# Altium schematic symbol library mySCH.SCHLIB: 54 symbols
Pins are listed as number, name and electrical type; pins without a type are passive.

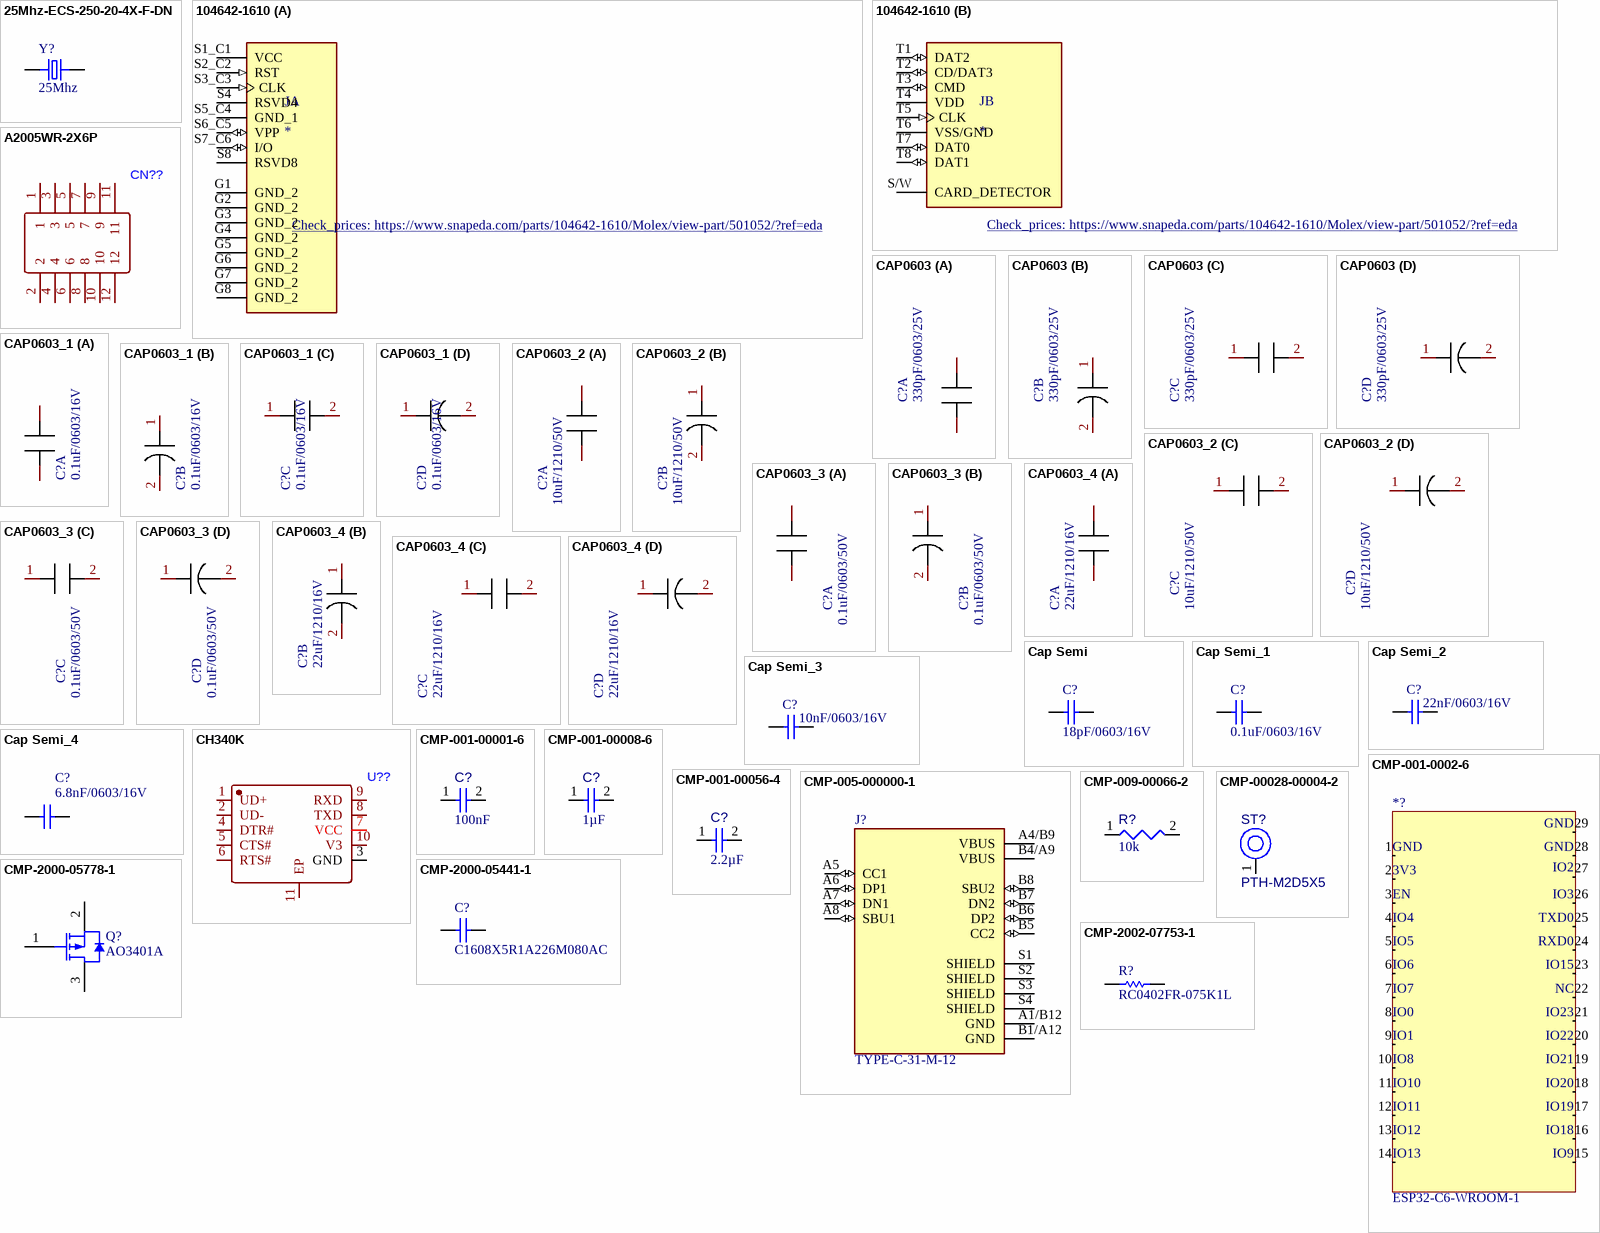
[diagram p0: symbols 25Mhz-ECS-250-20-4X-F-DN to CMP-2002-07753-1]

## 25Mhz-ECS-250-20-4X-F-DN
designator Y?, comment 25Mhz
25 MHz ±30ppm Crystal 20pF 30 Ohms HC-49/US; MF: ECS Inc.; MP: ECS-250-20-4X-F-DN; SnapEDA_Link: https://www.snapeda.com/parts/ECS-250-20-4X-F-DN/ECS+Inc./view-part/?ref=snap; Package: HC-49US ECS Inc.; Value: *; Check_prices: https://www.snapeda.com/parts/ECS-250-20-4X-F-DN/ECS+Inc./view-part/?ref=eda
footprint XTAL_ECS-250-20-4X-F-DN
pins: 1, 2

## 104642-1610
designator J
17 (16 + 1) Position Card Connector Combo - microSDâ„¢, Micro SIM Surface Mount, Right Angle Gold or Gold-Palladium; MF: Molex; MP: 104642-1610; Package: None; SnapEDA_Link: https://www.snapeda.com/parts/104642-1610/Molex/view-part/501052/?ref=snap; Mouser-Purchase-URL: https://snapeda.com/shop?store=Mouser&id=501052; Price: None; Availability: Warning; Value: *; Check_prices: https://www.snapeda.com/parts/104642-1610/Molex/view-part/501052/?ref=eda
footprint MOLEX_104642-1610
part A pins: G1 GND_2 (power), G2 GND_2 (power), G3 GND_2 (power), G4 GND_2 (power), G5 GND_2 (power), G6 GND_2 (power), G7 GND_2 (power), G8 GND_2 (power), S1_C1 VCC (power), S2_C2 RST (in), S3_C3 CLK (in), S4 RSVD4, S5_C4 GND_1 (power), S6_C5 VPP (io), S7_C6 I/O (io), S8 RSVD8
part B pins: S/W CARD_DETECTOR, T1 DAT2 (io), T2 CD/DAT3 (io), T3 CMD (io), T4 VDD (power), T5 CLK (in), T6 VSS/GND (power), T7 DAT0 (io), T8 DAT1 (io)

## A2005WR-2X6P
designator CN??
footprint HDR-TH_12P-P2.00-H-M-R2-C6-S2.00-W8.7
pins: 1, 2, 3, 4, 5, 6, 7, 8, 9, 10, 11, 12

## CAP0603
designator C?, comment 330pF/0603/25V
SURFACE MOUNT CAPACITOR 0.031 X 0.061 INCHES; Manufacturer #1: IPC SM-782 STD.; Name: CAP0603; Sim_Analog_Order: Model$; PCB DECAL: 0603; Add into BOM: yes; Symbol: CAP0603; Device: CAP0603; OldName: CAP0603; Value: 330pF/0603/25V; Convert to PCB: yes; Origin Footprint: 0603
footprint CAP0603
part A pins: 1, 2
part B pins: 1, 2
part C pins: 1, 2
part D pins: 1, 2

## CAP0603_1
designator C?, comment 0.1uF/0603/16V
SURFACE MOUNT CAPACITOR 0.031 X 0.061 INCHES; Manufacturer #1: IPC SM-782 STD.; Name: CAP0603; Sim_Analog_Order: Model$; Value: 0.1uF/0603/50V; PCB DECAL: 0603; Add into BOM: yes; Symbol: CAP0603; Device: CAP0603; OldName: CAP0603; Convert to PCB: yes; Origin Footprint: 0603
footprint CAP0603
part A pins: 1, 2
part B pins: 1, 2
part C pins: 1, 2
part D pins: 1, 2

## CAP0603_2
designator C?, comment 10uF/1210/50V
SURFACE MOUNT CAPACITOR 0.031 X 0.061 INCHES; Manufacturer #1: IPC SM-782 STD.; Name: CAP0603; Sim_Analog_Order: Model$; Value: 10uF/1210/35V; PCB DECAL: 0603; Add into BOM: yes; Symbol: CAP0603; Device: CAP0603; OldName: CAP0603; Convert to PCB: yes; Origin Footprint: 0603
footprint CAP1210-CAPC3225X140N (CAP1210)
part A pins: 1, 2
part B pins: 1, 2
part C pins: 1, 2
part D pins: 1, 2

## CAP0603_3
designator C?, comment 0.1uF/0603/50V
SURFACE MOUNT CAPACITOR 0.031 X 0.061 INCHES; Manufacturer #1: IPC SM-782 STD.; Name: CAP0603; Sim_Analog_Order: Model$; PCB DECAL: 0603; Add into BOM: yes; Symbol: CAP0603; Device: CAP0603; OldName: CAP0603; Value: 0.1uF/0603/50V; Convert to PCB: yes; Origin Footprint: 0603
footprint CAP0603
part A pins: 1, 2
part B pins: 1, 2
part C pins: 1, 2
part D pins: 1, 2

## CAP0603_4
designator C?, comment 22uF/1210/16V
SURFACE MOUNT CAPACITOR 0.031 X 0.061 INCHES; Manufacturer #1: IPC SM-782 STD.; Name: CAP0603; Sim_Analog_Order: Model$; Value: 22uF/1210/35V; PCB DECAL: 0603; Add into BOM: yes; Symbol: CAP0603; Device: CAP0603; OldName: CAP0603; Convert to PCB: yes; Origin Footprint: 0603
footprint CAP1210-CAPC3225X140N (CAP1210)
part A pins: 1, 2
part B pins: 1, 2
part C pins: 1, 2
part D pins: 1, 2

## Cap Semi
designator C?, comment 18pF/0603/16V
Capacitor (Semiconductor SIM Model); Published: 8-Jun-2000; LatestRevisionDate: 29-May-2009; LatestRevisionNote: IPC-7351 Footprint Added.; PackageReference: C1206; Publisher: Altium Limited; PackageDescription: Chip Capacitor
footprint C1206 (Chip Capacitor, Body 3.2x1.6mm, IPC High Density)
footprint 0402 (Chip Capacitor, Body 1.0x0.5mm, IPC High Density)
footprint C2512 (Chip Capacitor, Body 2.54x1.27mm, IPC High Density)
footprint 1608[0603] (Chip Capacitor, Body 1.6x0.8mm, IPC High Density)
footprint C1210 (Chip Capacitor, Body 3.2x2.5mm, IPC High Density)
simulation model CAP (Semiconductor Capacitor)
signal-integrity model Cap Semi
footprint CAP0603
pins: 1, 2

## Cap Semi_1
designator C?, comment 0.1uF/0603/16V
Capacitor (Semiconductor SIM Model); Published: 8-Jun-2000; LatestRevisionDate: 29-May-2009; LatestRevisionNote: IPC-7351 Footprint Added.; PackageReference: C1206; Publisher: Altium Limited; PackageDescription: Chip Capacitor
footprint C1206 (Chip Capacitor, Body 3.2x1.6mm, IPC High Density)
footprint 0402 (Chip Capacitor, Body 1.0x0.5mm, IPC High Density)
footprint C2512 (Chip Capacitor, Body 2.54x1.27mm, IPC High Density)
footprint 1608[0603] (Chip Capacitor, Body 1.6x0.8mm, IPC High Density)
footprint C1210 (Chip Capacitor, Body 3.2x2.5mm, IPC High Density)
simulation model CAP (Semiconductor Capacitor)
signal-integrity model Cap Semi
footprint CAP0603
pins: 1, 2

## Cap Semi_2
designator C?, comment 22nF/0603/16V
Capacitor (Semiconductor SIM Model); Published: 8-Jun-2000; LatestRevisionDate: 29-May-2009; LatestRevisionNote: IPC-7351 Footprint Added.; PackageReference: C1206; Publisher: Altium Limited; PackageDescription: Chip Capacitor
footprint C1206 (Chip Capacitor, Body 3.2x1.6mm, IPC High Density)
footprint 0402 (Chip Capacitor, Body 1.0x0.5mm, IPC High Density)
footprint C2512 (Chip Capacitor, Body 2.54x1.27mm, IPC High Density)
footprint 1608[0603] (Chip Capacitor, Body 1.6x0.8mm, IPC High Density)
footprint C1210 (Chip Capacitor, Body 3.2x2.5mm, IPC High Density)
simulation model CAP (Semiconductor Capacitor)
signal-integrity model Cap Semi
footprint CAP0603
pins: 1, 2

## Cap Semi_3
designator C?, comment 10nF/0603/16V
Capacitor (Semiconductor SIM Model); Published: 8-Jun-2000; LatestRevisionDate: 29-May-2009; LatestRevisionNote: IPC-7351 Footprint Added.; PackageReference: C1206; Publisher: Altium Limited; PackageDescription: Chip Capacitor
footprint C1206 (Chip Capacitor, Body 3.2x1.6mm, IPC High Density)
footprint 0402 (Chip Capacitor, Body 1.0x0.5mm, IPC High Density)
footprint C2512 (Chip Capacitor, Body 2.54x1.27mm, IPC High Density)
footprint 1608[0603] (Chip Capacitor, Body 1.6x0.8mm, IPC High Density)
footprint C1210 (Chip Capacitor, Body 3.2x2.5mm, IPC High Density)
simulation model CAP (Semiconductor Capacitor)
signal-integrity model Cap Semi
footprint CAP0603
pins: 1, 2

## Cap Semi_4
designator C?, comment 6.8nF/0603/16V
Capacitor (Semiconductor SIM Model); Published: 8-Jun-2000; LatestRevisionDate: 29-May-2009; LatestRevisionNote: IPC-7351 Footprint Added.; PackageReference: C1206; Publisher: Altium Limited; PackageDescription: Chip Capacitor
footprint C1206 (Chip Capacitor, Body 3.2x1.6mm, IPC High Density)
footprint 0402 (Chip Capacitor, Body 1.0x0.5mm, IPC High Density)
footprint C2512 (Chip Capacitor, Body 2.54x1.27mm, IPC High Density)
footprint 1608[0603] (Chip Capacitor, Body 1.6x0.8mm, IPC High Density)
footprint C1210 (Chip Capacitor, Body 3.2x2.5mm, IPC High Density)
simulation model CAP (Semiconductor Capacitor)
signal-integrity model Cap Semi
footprint CAP0603
pins: 1, 2

## CH340K
designator U??
footprint ESOP-10_L4.9-W3.9-P1.00-LS6.2-BL-EP
pins: 1 UD+, 2 UD-, 3 GND, 4 DTR#, 5 CTS#, 6 RTS#, 7 VCC, 8 TXD, 9 RXD, 10 V3, 11 EP

## CMP-001-00001-6
designator C?, comment value 100nF  (hidden comment: Capacitor 0.1 uF +/- 5% 16 V 0402)
Chip Capacitor, 0.1 uF, +/- 5%, 16 V, 0402 (1005 Metric); Capacitor Type: Ceramic; Voltage Rating: 16V; Max Operating Temperature: 125°C; Min Operating Temperature: -55°C; Case/Package: 0402; Mounting Technology: SM; Pins: 2; Tolerance: 5%; RoHS Compliant: True
footprint CAPC1005X56X25LL10T15 (Chip Capacitor, 2-Leads, Body 1.10x0.60mm, IPC High Density)
footprint CAPC1005X56X25NL10T15 (Chip Capacitor, 2-Leads, Body 1.10x0.60mm, IPC Medium Density)
footprint CAPC1005X56X25ML10T15 (Chip Capacitor, 2-Leads, Body 1.10x0.60mm, IPC Low Density)
pins: 1, 2

## CMP-001-0002-6
designator *?, comment ESP32-C6-WROOM-1
ESP32-C6-WROOM-1 Module
footprint PCBComponent_1
pins: 1 (power) "GND", 2 (power) "3V3", 3 (in) "EN", 4 (io) "IO4", 5 (in) "IO5", 6 (io) "IO6", 7 (io) "IO7", 8 (io) "IO0", 9 (io) "IO1", 10 (io) "IO8", 11 (io) "IO10", 12 (io) "IO11", 13 (io) "IO12", 14 (io) "IO13", 15 (io) "IO9", 16 (io) "IO18", 17 (io) "IO19", 18 (io) "IO20", 19 (io) "IO21", 20 (io) "IO22", 21 (io) "IO23", 22 "NC", 23 (io) "IO15", 24 (io) "RXD0", 25 (io) "TXD0", 26 (io) "IO3", 27 (io) "IO2", 28 (power) "GND", 29 (power) "EPAD"
text: GND; IO2; 3V3; EN; IO3; IO4; TXD0; IO5; RXD0; IO6; IO15; IO7; NC; IO0; IO23; IO1; IO22; IO8; IO21; IO10; IO20; IO11; IO19; IO12; IO18; IO13; IO9

## CMP-001-00008-6
designator C?, comment value 1µF  (hidden comment: Capacitor 1 uF +/- 10% 6.3 V 0402)
Chip Capacitor, 1 uF, +/- 10%, 6.3 V, 0402 (1005 Metric); Capacitor Type: Ceramic; Voltage Rating: 6.3V; Max Operating Temperature: 85°C; Mounting Technology: SM; Tolerance: 10%; Case/Package: 0402; RoHS Compliant: True; Min Operating Temperature: -55°C; Pins: 2
footprint CAPC1005X55X25LL05T10 (Chip Capacitor, 2-Leads, Body 1.05x0.55mm, IPC High Density)
footprint CAPC1005X55X25ML05T10 (Chip Capacitor, 2-Leads, Body 1.05x0.55mm, IPC Low Density)
footprint CAPC1005X55X25NL05T10 (Chip Capacitor, 2-Leads, Body 1.05x0.55mm, IPC Medium Density)
pins: 1, 2

## CMP-001-00056-4
designator C?, comment value 2.2µF  (hidden comment: Capacitor 2,2µF +/-20% 10V 0402)
Chip Capacitor, 2,2µF +/-20%, 10V, 0402, Thickness 0.6 mm; Tolerance: 10%; Mounting Technology: SMT; Max Operating Temperature: 85°C; Case/Package: 0402; Pins: 2; Min Operating Temperature: -55°C; Voltage Rating: 10V
footprint CAPC0402(1005)60_L (Chip Capacitor, Body 1.0x0.5mm, Height 0.6mm, IPC High Density)
pins: 1, 2

## CMP-005-000000-1
designator J?, comment TYPE-C-31-M-12
USB Connectors 24 Receptacle 1 8.94*7.3mm RoHS; MF: HRO Electronics Co., Ltd.; Pin Count: 16; Design Item ID: TYPE-C-31-M-12; Component Type: Standard; Price: None; Check_prices: https://www.snapeda.com/parts/TYPE-C-31-M-12/HRO+Electronics+Co.%252C+Ltd./view-part/?ref=eda; Value: *; MP: TYPE-C-31-M-12; Source: TYPE-C-31-M-12.SchLib; Availability: Not in stock; SnapEDA_Link: https://www.snapeda.com/parts/TYPE-C-31-M-12/HRO+Electronics+Co.%252C+Ltd./view-part/?ref=snap; Package: Package
footprint HRO_TYPE-C-31-M-12
pins: A1/B12 GND (power), A4/B9 VBUS (power), A5 CC1 (io), A6 DP1 (io), A7 DN1 (io), A8 SBU1 (io), B1/A12 GND (power), B4/A9 VBUS (power), B5 CC2 (io), B6 DP2 (io), B7 DN2 (io), B8 SBU2 (io), S1 SHIELD, S2 SHIELD, S3 SHIELD, S4 SHIELD

## CMP-009-00066-2
designator R?, comment value 10k  (hidden comment: 10KR2F)
10K 0.063W 1% 0402 (1005 Metric)  SMD; Power: 63mW; Case/Package: 0402; Mounting Technology: SMT; Pins: 2; Tolerance: 1%
footprint RESC0402(1005)_L (Chip Resistor, Body 1.0x0.5mm, IPC High Density)
pins: 1, 2
1 alternate drawing of the same symbol

## CMP-00028-00004-2
designator ST?, comment PTH-M2D5X5
M2 PTH (2.5mm), 5mm pad; Pins: 1
footprint PTH-M2D5X5
pins: 1 H1

## CMP-2000-05441-1
designator C?, comment C1608X5R1A226M080AC
Chip Capacitor, 22 uF, +/- 20%, 10 V, -55 to 85 degC, 0603 (1608 Metric), RoHS, Tape and Reel; Manufacturer: TDK; PCN Part Number: MLCCPartNumberChange30/Nov/2012; Voltage - Rated: 10V; Product Training Modules: CSeriesGeneralApplicationsSEAT,CCV,andTVCLDesignToolsGuidetoReplacinganElectrolyticCapacitorwithanMLCC; Other Names: 445-9077-1; Design Resources: 20WNon-IsolatedBuckLEDDriverUsingPLLNK460KG; Online Catalog: CSeries,GeneralPurpose; Capacitance: 22µF; Temperature Coefficient: X5R; Kits: 445-9014-KIT-ND-KITMLCC100PF-22UF060310-50V; Packaging: CutTape(CT); Standard Package: 1; Package / Case: 0603(1608Metric); Lead Style: -; Features: -; Ratings: -; Operating Temperature: -55degC~85degC; Applications: GeneralPurpose; Package Reference: 603; Datasheet URL: http://download.siliconexpert.com/pdfs/2015/4/21/15/54/45/779/tdk_/manual/37024850441143360mlcc_commercial_general_en.pdf; Datasheet Version: Mar-15; Mounting Type: SurfaceMount,MLCC; Lead Spacing: -; Size / Dimension: 0.063"Lx0.031"W(1.60mmx0.80mm); Height - Seated (Max): -; Package Description: 2-Pin Surface Mount Device, Body 1.6 x 0.8 mm; Manufacturer URL: http://www.tdk.com/; RoHS Information: RoHSCertificate-MLCC; Tolerance: ±20%; Series: C; Thickness (Max): 0.035"(0.90mm); Family: CeramicCapacitors; Category: Capacitors
footprint CAPC1608X100X20ML10 (Chip Capacitor, 2-Leads, Body 1.70x0.90mm, IPC Low Density)
footprint CAPC1608X100X20NL10 (Chip Capacitor, 2-Leads, Body 1.70x0.90mm, IPC Medium Density)
footprint CAPC1608X100X20LL10 (Chip Capacitor, 2-Leads, Body 1.70x0.90mm, IPC High Density)
pins: 1, 2

## CMP-2000-05778-1
designator Q?, comment AO3401A
P-Channel MOSFET, 30 V, 4 A, -55 to 150 degC, 3-Pin SOT-23-3L, RoHS, Tape and Reel; Manufacturer: Alpha and Omega; Output Power (Max): NotRequiredW; Power Dissipation: 1.4W; Rad Hardened: No; Drain Efficiency: NotRequired%; Drain-Source On-Volt: 30V; Noise Figure: NotRequireddB; Frequency (Max): NotRequiredMHz; Number of  Elements: 1; Gate-Source Voltage (Max): ?12V; Drain Current (Max): 4A; Channel Mode: Enhancement; Drain-Source On-Res: 0.044ohm; Type: PowerMOSFET; Polarity: P; Package URL: http://www.aosmd.com/res/packaging_information/SOT-23-3L.pdf; Datasheet URL: http://www.aosmd.com/res/data_sheets/AO3401A.pdf; Package Type: SOT-23; Package Description: 3-Pin Small Outline Transistor, Body 2.95 x 1.6 mm, Pitch 0.95 mm; Mounting: SurfaceMount; Manufacturer URL: http://www.aosmd.com/; Continuous Drain Current: 4A; Package Reference: SOT-23-3L; Mounting Technology: SurfaceMount; Operating Temperature Classification: Military; Power Gain: NotRequireddB; Datasheet Version: Rev. 3, 03/2011; Operating Temp Range: -55Cto150C; Pin Count: 3
footprint AO-SOT-23-3L_V (SOT23, 3-Leads, Body 3.1x1.8mm, Pitch 0.95mm)
pins: 1 GATE, 2 SOURCE, 3 DRAIN

## CMP-2002-07753-1
designator R?, comment RC0402FR-075K1L
Manufacturer: Yageo / Phycomp; Part Number: RC0402FR-075K1L
footprint RESC1005X40X25NL05T10 (Chip Resistor, 2-Leads, Body 1.00x0.50mm, IPC Medium Density)
footprint RESC1005X40X25ML05T10 (Chip Resistor, 2-Leads, Body 1.00x0.50mm, IPC Low Density)
footprint RESC1005X40X25LL05T10 (Chip Resistor, 2-Leads, Body 1.00x0.50mm, IPC High Density)
pins: 1, 2
1 alternate drawing of the same symbol

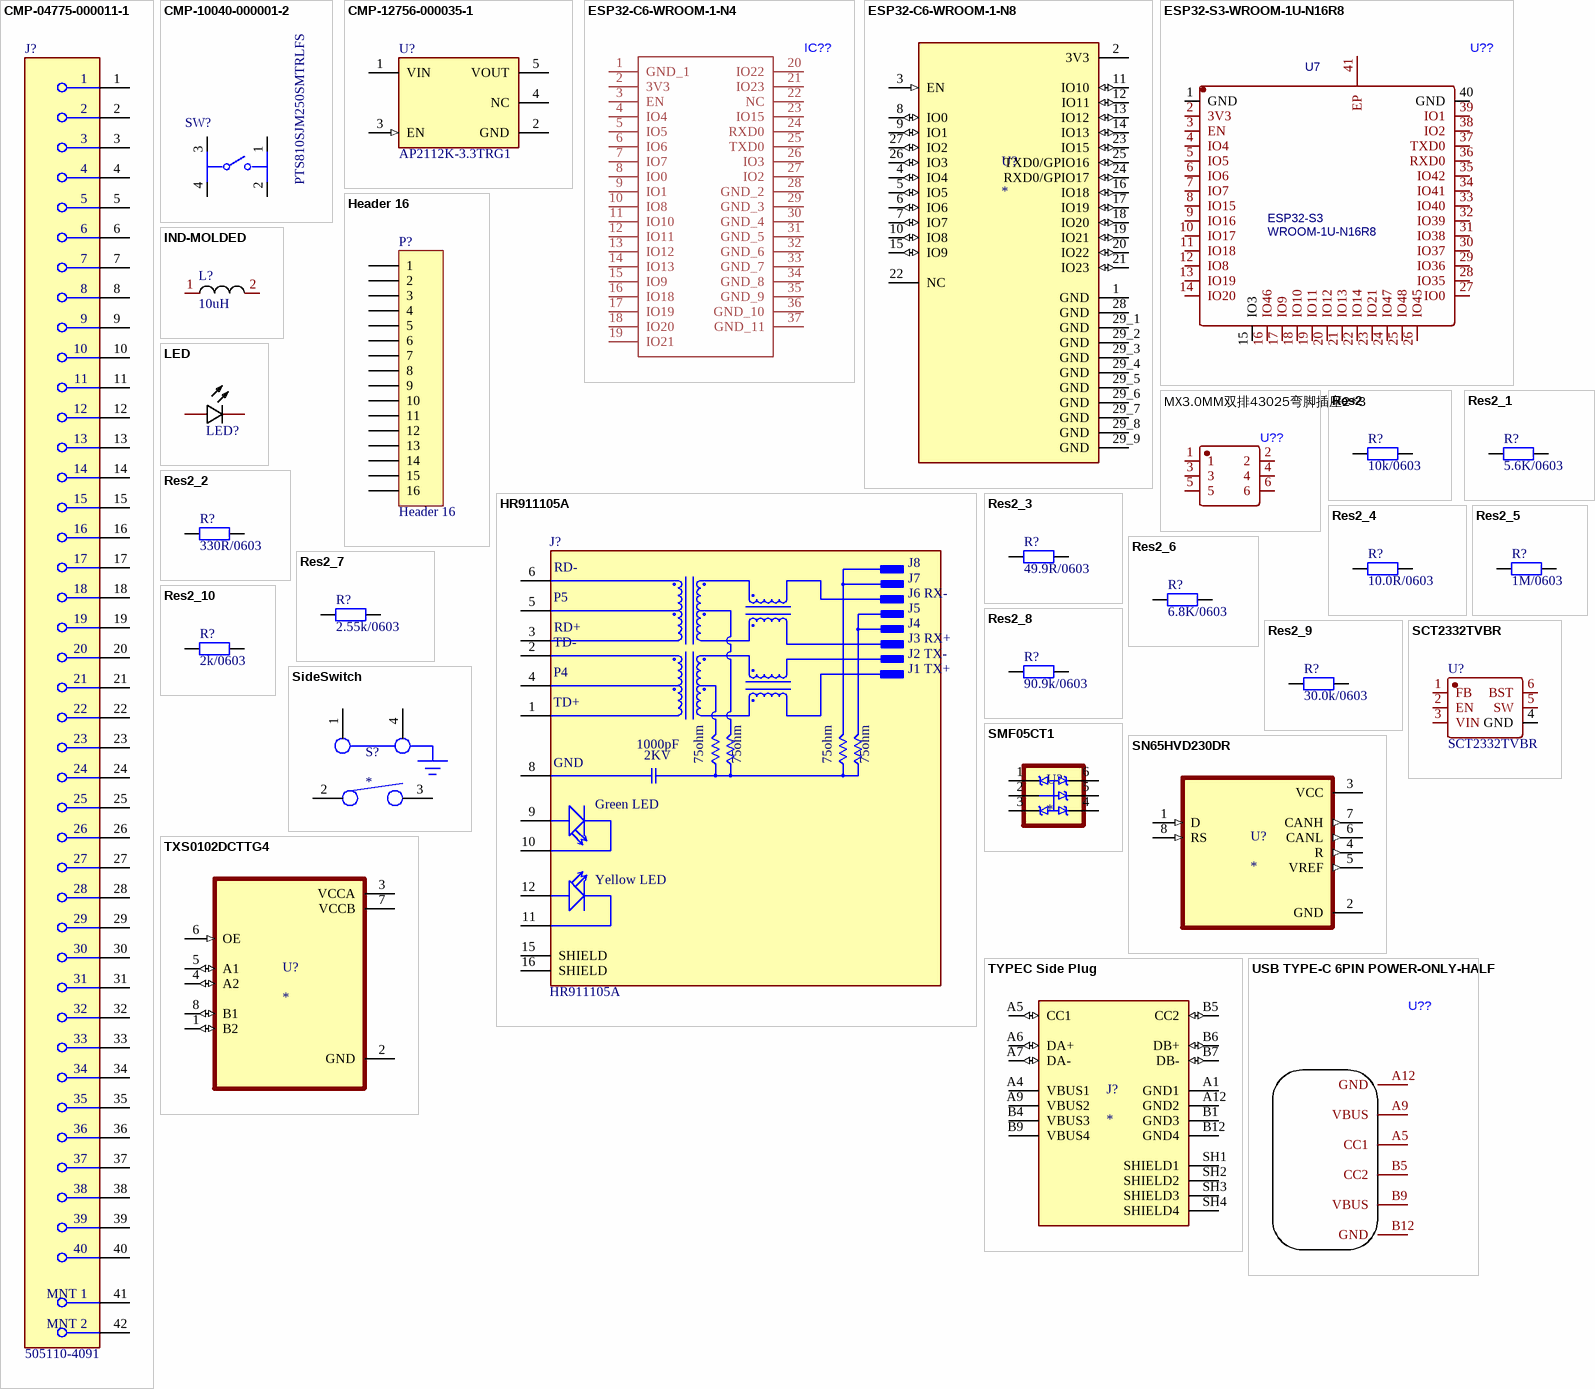
[diagram p1: symbols CMP-04775-000011-1 to USB TYPE-C 6PIN POWER-ONLY-HALF]

## CMP-04775-000011-1
designator J?, comment 505110-4091
CONN FFC/FPC BOTTOM 40P .5MM R/A; Actuator Material: Nylon; Mating Cycles: 25; Actuator Color: Black; Voltage Rating: 50V; Number of Circuits: 40; Current Rating: 500mA; Pitch: 0.5mm; Gender: Receptacle; Contact Plating: Gold; Number of Rows: 1; Number of Pins: 40; Termination: Solder; Packaging: Cut Tape; Max Operating Temperature: 105°C; Housing Color: Beige; Mount: Surface Mount; Halogen Free: Low Halogen; Flammability Rating: UL94 V-0; Series: Easy-On 505110; Min Operating Temperature: -40°C; Contact Material: Bronze; Housing Material: Polymer; Height: 1.9mm; Number of Contacts: 40; Number of Positions: 40; Orientation: Right Angle
footprint FP-505110-4091-MFG
pins: 1, 2, 3, 4, 5, 6, 7, 8, 9, 10, 11, 12, 13, 14, 15, 16, 17, 18, 19, 20, 21, 22, 23, 24, 25, 26, 27, 28, 29, 30, 31, 32, 33, 34, 35, 36, 37, 38, 39, 40, 41 MNT 1, 42 MNT 2

## CMP-10040-000001-2
designator SW?, comment PTS810SJM250SMTRLFS
SWITCH TACTILE SPST-NO 0.05A 16V; Throw Configuration: SPST; Operating Force: 160gf; Actuator Type: Standard; Switch Travel: 0.15mm; Switch Function: Off-Mom; Max Current Rating: 50mA; Mechanical Life: 150000Cycles; Illumination Type: Non-Illuminated; Package Quantity: 2900; Depth: 4.6mm; Mount: Surface Mount; Packaging: Tape and Reel; Length: 3.2mm; RoHS Compliant: Yes; Case/Package: SMD/SMT; Voltage Rating (DC): 16V; Min Operating Temperature: -40°C; Termination: J-Bend; Lead Free: Lead Free; Contact Plating: Silver; Orientation: Straight; Max Operating Temperature: 85°C; Current Rating: 50mA; Color: Black
footprint FP-PTS810SJM250SMTRLFS-MFG
pins: 1, 2, 3, 4

## CMP-12756-000035-1
designator U?, comment AP2112K-3.3TRG1
IC REG LINEAR 3.3V 600MA SOT25; Number of Regulators: 1; Output Type: Fixed; Polarity: Positive; Min Input Voltage: 2.5V; Max Input Voltage: 6V; Accuracy: 1.5%; Quiescent Current: 55uA; Dropout Voltage: 250mV; Min Operating Temperature: -40°C; Length: 3.1mm; Output Current: 600mA; Max Operating Temperature: 85°C; Package Quantity: 1; Output Voltage: 3.3V; Width: 1.7mm; Number of Outputs: 1; Packaging: Tape and Reel; Height: 1.3mm; Lead Free: Lead Free; Max Output Current: 600mA; Case/Package: SOT-23-5; Mount: Surface Mount; Number of Pins: 5
footprint FP-SOT25-IPC_A
footprint FP-SOT25-MFG
footprint FP-SOT25-IPC_C
footprint FP-SOT25-IPC_B
pins: 1 VIN (power), 2 GND (power), 3 EN (in), 4 NC, 5 VOUT (power)

## ESP32-C6-WROOM-1-N4
designator IC??
footprint ESP32C6WROOM1N4
pins: 1 GND_1, 2 3V3, 3 EN, 4 IO4, 5 IO5, 6 IO6, 7 IO7, 8 IO0, 9 IO1, 10 IO8, 11 IO10, 12 IO11, 13 IO12, 14 IO13, 15 IO9, 16 IO18, 17 IO19, 18 IO20, 19 IO21, 20 IO22, 21 IO23, 22 NC, 23 IO15, 24 RXD0, 25 TXD0, 26 IO3, 27 IO2, 28 GND_2, 29 GND_3, 30 GND_4, 31 GND_5, 32 GND_6, 33 GND_7, 34 GND_8, 35 GND_9, 36 GND_10, 37 GND_11

## ESP32-C6-WROOM-1-N8
designator U?
Multiprotocol Modules ESP32-C6 module, Wi-Fi 6 in 2.4 GHz band, Bluetooth 5, Zigbee 3.0 and Thread. ESP34-WROOM Compatible - ENGINEERING SAMPLE; MF: Espressif Systems; MP: ESP32-C6-WROOM-1-N8; SnapEDA_Link: https://www.snapeda.com/parts/ESP32-C6-WROOM-1-N8/Espressif+Systems/view-part/?ref=snap; Package: None; Value: *; Check_prices: https://www.snapeda.com/parts/ESP32-C6-WROOM-1-N8/Espressif+Systems/view-part/?ref=eda
footprint XCVR_ESP32-C6-WROOM-1-N8
pins: 1 GND (power), 2 3V3 (power), 3 EN (in), 4 IO4 (io), 5 IO5 (io), 6 IO6 (io), 7 IO7 (io), 8 IO0 (io), 9 IO1 (io), 10 IO8 (io), 11 IO10 (io), 12 IO11 (io), 13 IO12 (io), 14 IO13 (io), 15 IO9 (io), 16 IO18 (io), 17 IO19 (io), 18 IO20 (io), 19 IO21 (io), 20 IO22 (io), 21 IO23 (io), 22 NC, 23 IO15 (io), 24 RXD0/GPIO17 (io), 25 TXD0/GPIO16 (io), 26 IO3 (io), 27 IO2 (io), 28 GND (power), 29_1 GND (power), 29_2 GND (power), 29_3 GND (power), 29_4 GND (power), 29_5 GND (power), 29_6 GND (power), 29_7 GND (power), 29_8 GND (power), 29_9 GND (power)

## ESP32-S3-WROOM-1U-N16R8
designator U??
footprint ESP32-S3-WROOM-1U-N16R8
pins: 1 GND, 2 3V3, 3 EN, 4 IO4, 5 IO5, 6 IO6, 7 IO7, 8 IO15, 9 IO16, 10 IO17, 11 IO18, 12 IO8, 13 IO19, 14 IO20, 15 IO3, 16 IO46, 17 IO9, 18 IO10, 19 IO11, 20 IO12, 21 IO13, 22 IO14, 23 IO21, 24 IO47, 25 IO48, 26 IO45, 27 IO0, 28 IO35, 29 IO36, 30 IO37, 31 IO38, 32 IO39, 33 IO40, 34 IO41, 35 IO42, 36 RXD0, 37 TXD0, 38 IO2, 39 IO1, 40 GND, 41 EP
text: U7; ESP32-S3 / WROOM-1U-N16R8

## Header 16
designator P?
Header, 16-Pin; LatestRevisionDate: 17-Jul-2002; LatestRevisionNote: Re-released for DXP Platform.; Publisher: Altium Limited
footprint HDR1X16 (Connector; Header; 16 Position)
signal-integrity model Connector
pins: 1, 2, 3, 4, 5, 6, 7, 8, 9, 10, 11, 12, 13, 14, 15, 16

## HR911105A
designator J?
footprint HANRUN_HR911105A (带变压器以太网接口Hanrun)
pins: 1 TD+, 2 TD-, 3 RD+, 4 P4, 5 P5, 6 RD-, 8 GND (power), 9 GA, 10 GC, 11 YC, 12 YA, 15 SHIELD, 16 SHIELD
text: J8; J7; J6 RX-; J5; J4; J3 RX+; J2 TX-; J1 TX+; 1000pF; 2KV; 75ohm; Green LED; Yellow LED

## IND-MOLDED
designator L?, comment 10uH
Name: IND-MOLDED; Sim_Analog_Order: Model$; Sim_Analog_Prefix: L; Description" MOLDED INDUCTOR, 0_5: PIN SPACING; PCB DECAL: L_0650; Add into BOM: yes; Symbol: IND-MOLDED; Device: IND-MOLDED; OldName: IND-MOLDED; Value: 10uH; Convert to PCB: yes; Origin Footprint: L_0650
footprint IND-SMD_L4.7-W4.7-6.5uH (6.5uH)
pins: 1, 2

## LED
designator LED?, comment 19-217/GHC-YR1S2/3T  (value not drawn)
Manufacturer: EVERLIGHT; Convert to PCB: yes; Origin Footprint: LED0603-R-RD; Name: 19-217/GHC-YR1S2/3T; Symbol: 19-217/GHC-YR1S2/3T; Device: 19-217/GHC-YR1S2/3T; Supplier: LCSC; Manufacturer Part: 19-217/GHC-YR1S2/3T; Supplier Part: C72043; JLCPCB Part Class: Basic Part; Add into BOM: yes
footprint LED_0603_KA
pins: 1 A, 2 C

## MX3.0MM双排43025弯脚插座2*3
designator U??
footprint CONN-TH_6P-P3.00_HC-MX3.0-2X3AW
pins: 1, 2, 3, 4, 5, 6

## Res2
designator R?, comment 10k/0603
Resistor; Value: 1K; Published: 8-Jun-2000; LatestRevisionDate: 17-Jul-2002; LatestRevisionNote: Re-released for DXP Platform.; PackageReference: AXIAL-0.4; Publisher: Altium Limited; PackageDescription: Axial Device, Thru-Hole; 2 Leads; 0.4 in Pin Spacing
footprint AXIAL-0.4 (Axial Device, Thru-Hole; 2 Leads; 0.4 in Pin Spacing)
simulation model RESISTOR (Resistor)
signal-integrity model Res
footprint R0603
pins: 1, 2

## Res2_1
designator R?, comment 5.6K/0603
Resistor; Value: 1K; Published: 8-Jun-2000; LatestRevisionDate: 17-Jul-2002; LatestRevisionNote: Re-released for DXP Platform.; PackageReference: AXIAL-0.4; Publisher: Altium Limited; PackageDescription: Axial Device, Thru-Hole; 2 Leads; 0.4 in Pin Spacing
footprint AXIAL-0.4 (Axial Device, Thru-Hole; 2 Leads; 0.4 in Pin Spacing)
simulation model RESISTOR (Resistor)
signal-integrity model Res
footprint R0603
pins: 1, 2

## Res2_2
designator R?, comment 330R/0603
Resistor; Value: 1K; Published: 8-Jun-2000; LatestRevisionDate: 17-Jul-2002; LatestRevisionNote: Re-released for DXP Platform.; PackageReference: AXIAL-0.4; Publisher: Altium Limited; PackageDescription: Axial Device, Thru-Hole; 2 Leads; 0.4 in Pin Spacing
footprint AXIAL-0.4 (Axial Device, Thru-Hole; 2 Leads; 0.4 in Pin Spacing)
simulation model RESISTOR (Resistor)
signal-integrity model Res
footprint R0603
pins: 1, 2

## Res2_3
designator R?, comment 49.9R/0603
Resistor; Value: 1K; Published: 8-Jun-2000; LatestRevisionDate: 17-Jul-2002; LatestRevisionNote: Re-released for DXP Platform.; PackageReference: AXIAL-0.4; Publisher: Altium Limited; PackageDescription: Axial Device, Thru-Hole; 2 Leads; 0.4 in Pin Spacing
footprint AXIAL-0.4 (Axial Device, Thru-Hole; 2 Leads; 0.4 in Pin Spacing)
simulation model RESISTOR (Resistor)
signal-integrity model Res
footprint R0603
pins: 1, 2

## Res2_4
designator R?, comment 10.0R/0603
Resistor; Value: 1K; Published: 8-Jun-2000; LatestRevisionDate: 17-Jul-2002; LatestRevisionNote: Re-released for DXP Platform.; PackageReference: AXIAL-0.4; Publisher: Altium Limited; PackageDescription: Axial Device, Thru-Hole; 2 Leads; 0.4 in Pin Spacing
footprint AXIAL-0.4 (Axial Device, Thru-Hole; 2 Leads; 0.4 in Pin Spacing)
simulation model RESISTOR (Resistor)
signal-integrity model Res
footprint R0603
pins: 1, 2

## Res2_5
designator R?, comment 1M/0603
Resistor; Value: 1K; Published: 8-Jun-2000; LatestRevisionDate: 17-Jul-2002; LatestRevisionNote: Re-released for DXP Platform.; PackageReference: AXIAL-0.4; Publisher: Altium Limited; PackageDescription: Axial Device, Thru-Hole; 2 Leads; 0.4 in Pin Spacing
footprint AXIAL-0.4 (Axial Device, Thru-Hole; 2 Leads; 0.4 in Pin Spacing)
simulation model RESISTOR (Resistor)
signal-integrity model Res
footprint R0603
pins: 1, 2

## Res2_6
designator R?, comment 6.8K/0603
Resistor; Value: 1K; Published: 8-Jun-2000; LatestRevisionDate: 17-Jul-2002; LatestRevisionNote: Re-released for DXP Platform.; PackageReference: AXIAL-0.4; Publisher: Altium Limited; PackageDescription: Axial Device, Thru-Hole; 2 Leads; 0.4 in Pin Spacing
footprint AXIAL-0.4 (Axial Device, Thru-Hole; 2 Leads; 0.4 in Pin Spacing)
simulation model RESISTOR (Resistor)
signal-integrity model Res
footprint R0603
pins: 1, 2

## Res2_7
designator R?, comment 2.55k/0603
Resistor; Published: 8-Jun-2000; LatestRevisionDate: 17-Jul-2002; LatestRevisionNote: Re-released for DXP Platform.; PackageReference: AXIAL-0.4; Publisher: Altium Limited; PackageDescription: Axial Device, Thru-Hole; 2 Leads; 0.4 in Pin Spacing
footprint AXIAL-0.4 (Axial Device, Thru-Hole; 2 Leads; 0.4 in Pin Spacing)
simulation model RESISTOR (Resistor)
signal-integrity model Res
footprint R (Footprint not found)
footprint R0603
footprint RES0603
pins: 1, 2

## Res2_8
designator R?, comment 90.9k/0603
Resistor; Published: 8-Jun-2000; LatestRevisionDate: 17-Jul-2002; LatestRevisionNote: Re-released for DXP Platform.; PackageReference: AXIAL-0.4; Publisher: Altium Limited; PackageDescription: Axial Device, Thru-Hole; 2 Leads; 0.4 in Pin Spacing
footprint AXIAL-0.4 (Axial Device, Thru-Hole; 2 Leads; 0.4 in Pin Spacing)
simulation model RESISTOR (Resistor)
signal-integrity model Res
footprint R (Footprint not found)
footprint R0603
footprint RES0603
pins: 1, 2

## Res2_9
designator R?, comment 30.0k/0603
Resistor; Published: 8-Jun-2000; LatestRevisionDate: 17-Jul-2002; LatestRevisionNote: Re-released for DXP Platform.; PackageReference: AXIAL-0.4; Publisher: Altium Limited; PackageDescription: Axial Device, Thru-Hole; 2 Leads; 0.4 in Pin Spacing
footprint AXIAL-0.4 (Axial Device, Thru-Hole; 2 Leads; 0.4 in Pin Spacing)
simulation model RESISTOR (Resistor)
signal-integrity model Res
footprint R (Footprint not found)
footprint R0603
footprint RES0603
pins: 1, 2

## Res2_10
designator R?, comment 2k/0603
Resistor; Published: 8-Jun-2000; LatestRevisionDate: 17-Jul-2002; LatestRevisionNote: Re-released for DXP Platform.; PackageReference: AXIAL-0.4; Publisher: Altium Limited; PackageDescription: Axial Device, Thru-Hole; 2 Leads; 0.4 in Pin Spacing
footprint AXIAL-0.4 (Axial Device, Thru-Hole; 2 Leads; 0.4 in Pin Spacing)
simulation model RESISTOR (Resistor)
signal-integrity model Res
footprint R (Footprint not found)
footprint R0603
footprint RES0603
pins: 1, 2

## SCT2332TVBR
designator U?
3.8V-32V Vin, 3A Synchronous Step-down DCDC Converter
footprint SCT2332TVBR-TSOT23-6 (SCT2332TVBR)
pins: 1 FB, 2 EN, 3 VIN, 4 GND, 5 SW, 6 BST

## SideSwitch
designator S?
Tactile Switch SPST-NO Side Actuated Through Hole, Right Angle; MF: Wurth Elektronik; MP: 431256038726; Check_prices: https://www.snapeda.com/parts/431256038726/Wurth+Elektronik/view-part/?ref=eda; Value: *; SnapEDA_Link: https://www.snapeda.com/parts/431256038726/Wurth+Elektronik/view-part/?ref=snap; Availability: In Stock; Package: None; Purchase-URL: https://pricing.snapeda.com/search/part/431256038726/?ref=eda; Price: None
footprint 431256038726
footprint SideSwitch (侧方位按钮)
pins: 1 GND1, 2, 3, 4 GND

## SMF05CT1
designator U?
12.5V Clamp 8A (8/20Âµs) Ipp Tvs Diode Surface Mount SC-88/SC70-6/SOT-363; MP: SMF05CT1; MF: ON Semiconductor; Availability: In Stock; Package: SOT-363 ON Semiconductor; Value: *; SnapEDA_Link: https://www.snapeda.com/parts/SMF05CT1/Onsemi/view-part/?ref=snap; Price: None; Purchase-URL: https://pricing.snapeda.com/search/part/SMF05CT1/?ref=eda; Check_prices: https://www.snapeda.com/parts/SMF05CT1/Onsemi/view-part/?ref=eda
footprint SOT65P210X110-6N
pins: 1 C1, 2 A, 3 C2, 4 C3, 5 C4, 6 C5

## SN65HVD230DR
designator U?
3.3 V CAN Transceiver with Standby Mode; MF: Texas Instruments; MP: SN65HVD230DR; Availability: In Stock; SnapEDA_Link: https://www.snapeda.com/parts/SN65HVD230DR/Texas+Instruments/view-part/?ref=snap; Price: None; Check_prices: https://www.snapeda.com/parts/SN65HVD230DR/Texas+Instruments/view-part/?ref=eda; Package: SOIC-8 Texas Instruments; Value: *; Purchase-URL: https://pricing.snapeda.com/search/part/SN65HVD230DR/?ref=eda
footprint SOIC127P599X175-8N
pins: 1 D (in), 2 GND (power), 3 VCC (power), 4 R (out), 5 VREF (out), 6 CANL (out), 7 CANH (out), 8 RS (in)

## TXS0102DCTTG4
designator U?
2-Bit Bidirectional Voltage-Level Shifter for Open-Drain and Push-Pull Application 8-SM8 -40 to 85; MF: Texas Instruments; MP: TXS0102DCTTG4; SnapEDA_Link: https://www.snapeda.com/parts/TXS0102DCTTG4/Texas+Instruments/view-part/?ref=snap; Package: SSOP-8 Texas Instruments; Value: *; Check_prices: https://www.snapeda.com/parts/TXS0102DCTTG4/Texas+Instruments/view-part/?ref=eda
footprint SOP65P400X130-8N
pins: 1 B2 (io), 2 GND (power), 3 VCCA (power), 4 A2 (io), 5 A1 (io), 6 OE (in), 7 VCCB (power), 8 B1 (io)

## TYPEC Side Plug
designator J?
MF: {'manufacturer': u'Molex'}; MP: 2169890001; Package: None; Price: None; Value: *; Availability: Unavailable
footprint MOLEX_2169890001
pins: A1 GND1 (power), A4 VBUS1 (power), A5 CC1 (io), A6 DA+ (io), A7 DA- (io), A9 VBUS2 (power), A12 GND2 (power), B1 GND3 (power), B4 VBUS3 (power), B5 CC2 (io), B6 DB+ (io), B7 DB- (io), B9 VBUS4 (power), B12 GND4 (power), SH1 SHIELD1, SH2 SHIELD2, SH3 SHIELD3, SH4 SHIELD4

## USB TYPE-C 6PIN POWER-ONLY-HALF
designator U??
footprint USB-TYPE-C-6PIN
pins: A5 CC1, A9 VBUS, A12 GND, B5 CC2, B9 VBUS, B12 GND

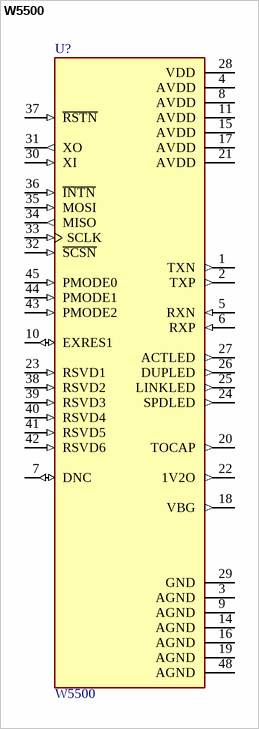
[diagram p2: symbol W5500]

## W5500
designator U?
footprint W5500-LQFP50P900X900X160-48N (W5500)
pins: 1 TXN (out), 2 TXP (out), 3 AGND (power), 4 AVDD (power), 5 RXN (in), 6 RXP (in), 7 DNC (io), 8 AVDD (power), 9 AGND (power), 10 EXRES1 (io), 11 AVDD (power), 14 AGND (power), 15 AVDD (power), 16 AGND (power), 17 AVDD (power), 18 VBG (out), 19 AGND (power), 20 TOCAP (out), 21 AVDD (power), 22 1V2O (out), 23 RSVD1 (in), 24 SPDLED (out), 25 LINKLED (out), 26 DUPLED (out), 27 ACTLED (out), 28 VDD (power), 29 GND, 30 XI (in), 31 XO (out), 32 ~{SCSN} (in), 33 SCLK (in), 34 MISO (out), 35 MOSI (in), 36 ~{INTN} (in), 37 ~{RSTN} (in), 38 RSVD2 (in), 39 RSVD3 (in), 40 RSVD4 (in), 41 RSVD5 (in), 42 RSVD6 (in), 43 PMODE2 (in), 44 PMODE1 (in), 45 PMODE0 (in), 48 AGND (power)